# Altium schematic symbol library Schlib2.SchLib: 1 symbol
Pins are listed as number, name and electrical type; pins without a type are passive.

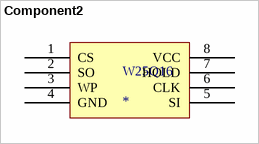
[diagram p0: symbol Component2]

## Component2
designator W25Q16
footprint W25Q16 (SOIC, 8-Leads, Body 4.90x3.90mm, Pitch 1.27mm, IPC Medium Density)
pins: 1 CS, 2 SO, 3 WP, 4 GND, 5 SI, 6 CLK, 7 HOLD, 8 VCC